# EAGLE library part SFH7050 (library CustomLibrary)
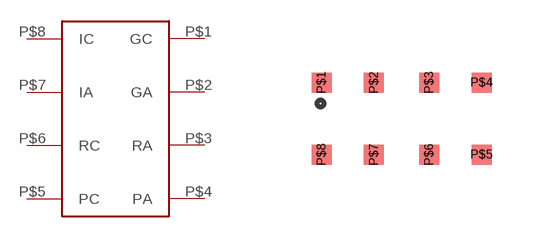
[diagram p2: symbol with the pads of SFH7050; footprint SFH7050]

Designator prefix U

## SFH7050  [SFH7050]
P$1  GC
P$2  GA
P$3  RA
P$4  PA
P$5  PC
P$6  RC
P$7  IA
P$8  IC

## Footprint SFH7050 (pad centres in mm)
smd 0.5 x 0.5: P$1 -1.928,0.889; P$2 -0.618,0.889; P$3 0.762,0.889; P$4 2.072,0.889; P$5 2.072,-0.911; P$6 0.762,-0.911; P$7 -0.618,-0.911; P$8 -1.928,-0.911